# Altium footprint library PcbLib.PcbLib: 20 footprints (part 2 of 2)
Each footprint in its own frame and in the unit in brackets; x right, y up, seen from the top. Pads: shape width x height; smd on the part's side, far side on the other; paste and mask are expansions set on the pad; w line width, h text height; cw(c..) or ccw(c..) is an arc to the next point about the centre after c.
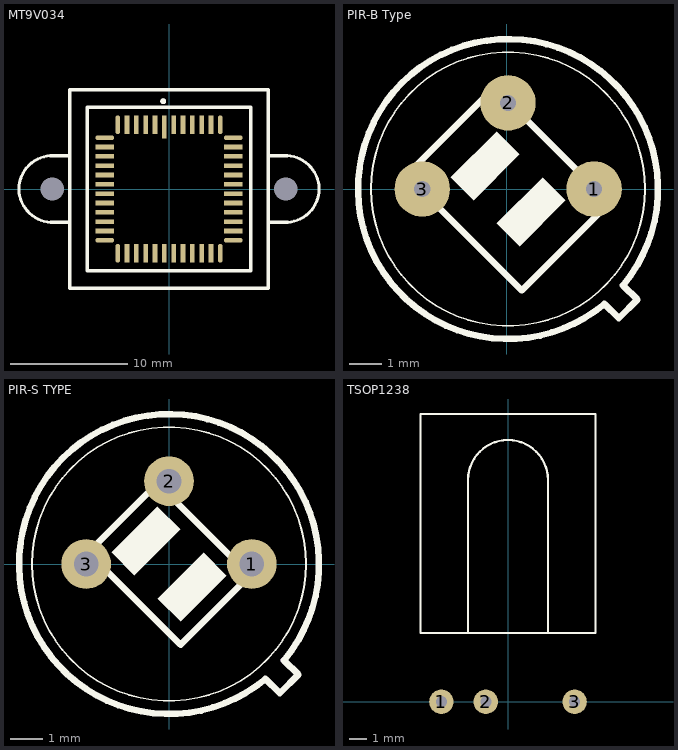
[diagram p1: the footprints below, top view; thin cyan lines are the x and y axes]

## MT9V034 [mm]
pads (50):
  rect 0.4x2 smd: 1(-0.4,5.315)
  rect 0.4x1.6 smd: 2(-1.2,5.515) 3(-2,5.515) 4(-2.8,5.515) 5(-3.6,5.515) 20(-3.6,-5.515) 21(-2.8,-5.515) 22(-2,-5.515) 23(-1.2,-5.515) 24(-0.4,-5.515) 25(0.4,-5.515) 26(1.2,-5.515) 27(2,-5.515) 28(2.8,-5.515) 29(3.6,-5.515) 44(3.6,5.515) 45(2.8,5.515) 46(2,5.515) 47(1.2,5.515) 48(0.4,5.515)
  oct 0.4x1.6 smd: 6(-4.4,5.515) 19(-4.4,-5.515) 30(4.4,-5.515) 43(4.4,5.515)
  oct 1.6x0.4 smd: 7(-5.515,4.4) 18(-5.515,-4.4) 31(5.515,-4.4) 42(5.515,4.4)
  rect 1.6x0.4 smd: 8(-5.515,3.6) 9(-5.515,2.8) 10(-5.515,2) 11(-5.515,1.2) 12(-5.515,0.4) 13(-5.515,-0.4) 14(-5.515,-1.2) 15(-5.515,-2) 16(-5.515,-2.8) 17(-5.515,-3.6) 32(5.515,-3.6) 33(5.515,-2.8) 34(5.515,-2) 35(5.515,-1.2) 36(5.515,-0.4) 37(5.515,0.4) 38(5.515,1.2) 39(5.515,2) 40(5.515,2.8) 41(5.515,3.6)
  round 0 hole 2: ""(-10,0) ""(10,0)
Top Overlay:
  lines w0.254: -10.16,2.852 ccw(c-10,0) -10.135,-2.853 ; -0.388,7.468 cw(c-0.502,7.525) -0.375,7.525 ; 10.135,2.853 cw(c10,0) 10.16,-2.852
  lines w0.3: -10.16,2.852 -8.694,2.852 ; -10.135,-2.853 -8.559,-2.853 ; 8.559,2.853 10.135,2.853 ; 8.569,-2.852 10.16,-2.852 ; -8.5,-8.5 8.5,-8.5 8.5,8.5 -8.5,8.5 -8.5,-8.5 ; -7,-7 -7,7 7,7 7,-7 -7,-7

## PIR-B Type [mm] "For D203B and D204B PIR Sensors"
height 4.7
pads (3):
  round 1.7 hole 0.5: 1(2.68,0) 2(0.04,2.64) 3(-2.59,0)
Top Overlay:
  circle w0.05: c0.04,0 r4.2
  region: 1.105,0.358 -0.309,-1.056 0.398,-1.763 1.812,-0.349
  region: -0.309,1.772 -1.723,0.358 -1.016,-0.349 0.398,1.065
  lines w0.2: -3.071,0.424 -0.384,3.111 3.151,-0.424 0.464,-3.111 -3.071,0.424 ; 2.997,-3.524 cw(c0.04,0) 3.564,-2.957 4.01,-3.39 3.44,-3.96 2.997,-3.524

## PIR-S TYPE [mil] "For D203S and D204S PIR Sensors"
height 185.04
pads (3):
  round 60 hole 30: 1(100,0) 2(0,100) 3(-100,0)
Top Overlay:
  circle w1.97: c0,0 r165.35
  region: -13.92,69.6 -69.6,13.92 -41.76,-13.92 13.92,41.76
  region: 41.76,13.92 -13.92,-41.76 13.92,-69.6 69.59,-13.92
  lines w7.87: -97.44,13.92 13.92,-97.44 97.44,-13.92 -13.92,97.44 -97.44,13.92 ; 116.41,-138.73 cw(c0,0) 138.73,-116.41 156.3,-133.46 133.86,-155.91 116.41,-138.73
Mechanical 1:
  lines w7.87: 138.67,-116.36 139.19,-116.36
3D body "PIR_S_Orginal.STEP": height 185.04, standoff -78.74, extent -178.63,-177.59 179.64,179.49

## TSOP1238 [mil] "IR Sensor (TV Sensor)"
pads (3):
  round 55 hole 25: 1(-150,0) 2(-50,0) 3(150,0)
Top Overlay:
  lines w5: -90,155 -90,500 cw(c0,500) 90,500 90,155 ; -196.85,155 -196.85,648.48 196.85,648.48 196.85,155 -196.85,155
3D body "TSOP1238_2009.STEP": height 228.35, standoff -84.65, extent -196.85,-9 196.85,648.48